# Altium footprint library pre_CAPACITOR.PcbLib: 26 footprints (part 1 of 2)
Each footprint in its own frame and in the unit in brackets; x right, y up, seen from the top. Pads: shape width x height; smd on the part's side, far side on the other; paste and mask are expansions set on the pad; w line width, h text height; cw(c..) or ccw(c..) is an arc to the next point about the centre after c.
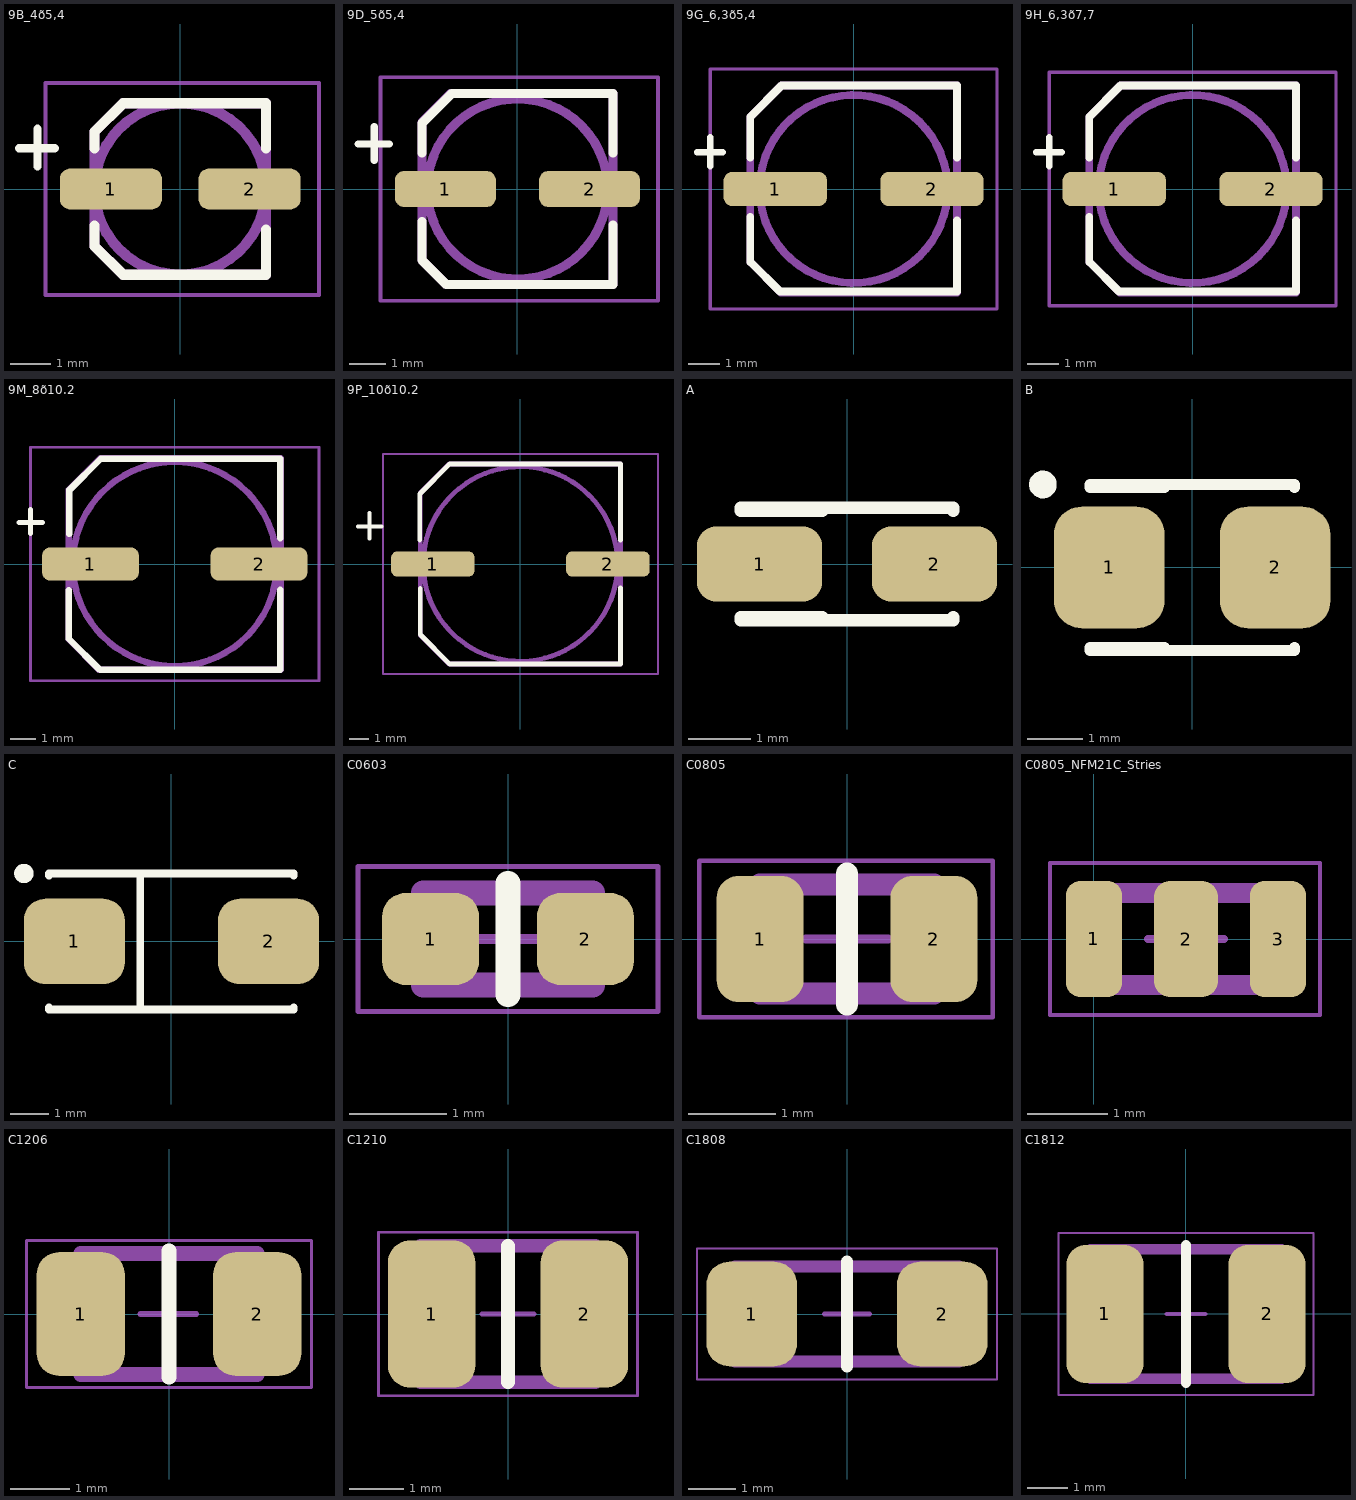
[diagram p0: the footprints below, top view; thin cyan lines are the x and y axes]

## 9B_4õ5,4 [mm]
height 5
pads (2):
  rrect50% 2.5x1 smd: 1(-1.7,0) 2(1.7,0)
Top Overlay:
  lines w0.2: -3.95,1 -3.075,1 ; -3.5,0.55 -3.5,1.475
  lines w0.254: -2.1,-0.9 -2.1,-1.4 -1.4,-2.1 2.1,-2.1 2.1,-1 ; -2.1,1 -2.1,1.4 -1.4,2.1 2.1,2.1 2.1,1
Top Assy:
  circle w0.254: c0,0 r2.1
  lines w0.254: -2.1,-1.4 -2.1,1.4 -1.4,2.1 2.1,2.1 2.1,-2.1 -1.4,-2.1 -2.1,-1.4
  text ".Designator" at -3.1,3.5 h1.52
Mechanical 15:
  lines w0.1: -3.3,-2.6 3.4,-2.6 3.4,2.6 -3.3,2.6 -3.3,-2.6
3D body: height 5.71, standoff 0.01, extent -2.65,-2.15 2.65,2.15

## 9D_5õ5,4 [mm]
height 5
pads (2):
  rrect50% 2.8x1 smd: 1(-2,0) 2(2,0)
Top Overlay:
  lines w0.2: -4.425,1.25 -3.55,1.25 ; -3.975,0.8 -3.975,1.725
  lines w0.254: -2.65,-0.9 -2.65,-1.975 -1.975,-2.65 2.65,-2.65 2.65,-1 ; -2.65,1 -2.65,1.825 -1.825,2.65 2.65,2.65 2.65,1
Top Assy:
  circle w0.254: c0,0 r2.5
  lines w0.254: -2.65,-1.975 -2.65,1.85 -1.85,2.65 2.65,2.65 2.65,-2.65 -1.975,-2.65 -2.65,-1.975
  text ".Designator" at -3.1,3.5 h1.52
Mechanical 15:
  lines w0.1: -3.8,-3.1 3.9,-3.1 3.9,3.1 -3.8,3.1 -3.8,-3.1
3D body: height 5.71, standoff 0.01, extent -3.15,-2.65 3.15,2.65

## 9G_6,3õ5,4 [mm]
height 5
pads (2):
  rrect50% 3.3x1.1 smd: 1(-2.5,0) 2(2.5,0)
Top Overlay:
  lines w0.2: -5,1.175 -4.175,1.175 ; -4.575,0.725 -4.575,1.65
  lines w0.254: -3.3,-0.9 -3.3,-2.325 -2.35,-3.275 3.3,-3.275 3.3,-1 ; -3.3,1 -3.3,2.3 -2.3,3.3 3.3,3.3 3.3,1
Top Assy:
  circle w0.254: c0,0 r3
  lines w0.254: -3.3,-2.325 -3.3,2.3 -2.3,3.3 3.3,3.3 3.3,-3.3 -2.325,-3.3 -3.3,-2.325
  text ".Designator" at -3.075,4.075 h1.52
Mechanical 15:
  lines w0.1: -4.575,-3.825 -4.575,3.825 4.575,3.825 4.575,-3.825 -4.575,-3.825
3D body: height 5.71, standoff 0.01, extent -3.9,-3.3 3.9,3.3

## 9H_6,3õ7,7 [mm]
height 7
pads (2):
  rrect50% 3.3x1.1 smd: 1(-2.5,0) 2(2.5,0)
Top Overlay:
  lines w0.2: -5,1.175 -4.175,1.175 ; -4.575,0.725 -4.575,1.65
  lines w0.254: -3.3,-0.9 -3.3,-2.325 -2.35,-3.275 3.3,-3.275 3.3,-1 ; -3.3,1 -3.3,2.3 -2.3,3.3 3.3,3.3 3.3,1
Top Assy:
  circle w0.254: c0,0 r3
  lines w0.254: -3.3,-2.325 -2.325,-3.3 3.3,-3.3 3.3,3.3 -2.3,3.3 -3.3,2.3 -3.3,-2.325
  text ".Designator" at -3.075,4.075 h1.52
Mechanical 15:
  lines w0.1: -4.575,-3.725 4.575,-3.725 4.575,3.725 -4.575,3.725 -4.575,-3.725
3D body: height 8, standoff 0, extent -3.9,-3.3 3.9,3.3

## 9M_8õ10.2 [mm]
height 102
pads (2):
  rrect50% 3.8x1.3 smd: 1(-3.3,0) 2(3.3,0)
Top Overlay:
  lines w0.2: -6.1,1.625 -5.175,1.625 ; -5.65,1.2 -5.65,2.125
  lines w0.254: -4.15,-1.025 -4.15,-2.925 -2.925,-4.15 4.125,-4.15 4.125,-1 ; -4.125,1.175 -4.125,2.9 -2.9,4.125 4.125,4.125 4.125,1
Top Assy:
  circle w0.254: c0,0 r4
  lines w0.254: -4.15,-2.95 -4.15,2.9 -2.9,4.15 4.15,4.15 4.15,-4.15 -2.95,-4.15 -4.15,-2.95
  text ".Designator" at -3.125,4.975 h1.52
Mechanical 15:
  lines w0.1: -5.65,-4.575 5.65,-4.575 5.65,4.575 -5.65,4.575 -5.65,-4.575
3D body: height 10.51, standoff 0.01, extent -5,-4.15 5,4.15

## 9P_10õ10.2 [mm]
height 102
pads (2):
  rrect50% 4.3x1.3 smd: 1(-4.5,0) 2(4.5,0)
Top Overlay:
  lines w0.2: -8.35,1.925 -7.15,1.925 ; -7.75,1.3 -7.75,2.625
  lines w0.254: -5.175,1.225 -5.175,3.6 -3.625,5.15 5.15,5.15 5.15,1.225 ; -5.15,-1.25 -5.15,-3.625 -3.625,-5.15 5.15,-5.15 5.15,-1.225
Top Assy:
  circle w0.254: c0,0 r5
  lines w0.254: -5.15,-3.65 -5.15,3.65 -3.65,5.15 5.15,5.15 5.15,-5.15 -3.65,-5.15 -5.15,-3.65
  text ".Designator" at -3.125,6.5 h1.52
Mechanical 15:
  lines w0.1: -7.075,-5.65 7.075,-5.65 7.075,5.65 -7.075,5.65 -7.075,-5.65
3D body: height 10.51, standoff 0.01, extent -6.003,-5.15 6,5.15

## A [mm] "Capacitor, SM Tantalum; Body 3.2 x 1.6 mm (LxW typ)"
height 1.8
pads (2):
  rrect50% 2x1.2 smd: 1(-1.4,0) 2(1.4,0)
Top Overlay:
  lines w0.2: -1.7,-0.9 1.7,-0.9 1.7,-0.85 ; -1.7,-0.85 -0.4,-0.85 ; -1.7,0.85 -0.4,0.85 ; -1.7,0.9 1.7,0.9 1.7,0.85

## B [mm] "Capacitor, SM Tantalum; Body 3.5 x 2.8 mm (LxW typ)"
height 2.1
pads (2):
  rrect50% 2x2.2 smd: 1(-1.5,0) 2(1.5,0)
Top Overlay:
  circle w0.25: c-2.7,1.5 r0.125
  lines w0.2: -1.85,-1.5 1.85,-1.5 1.85,-1.45 ; -1.85,-1.45 -0.5,-1.45 ; -1.85,1.45 -0.5,1.45 ; -1.85,1.5 1.85,1.5 1.85,1.45

## C [mm] "Capacitor, SM Tantalum; Body 6.0 x 3.2 mm (LxW typ)"
height 2.8
pads (2):
  rrect50% 2.6x2.2 smd: 1(-2.5,0) 2(2.5,0)
Top Overlay:
  circle w0.25: c-3.8,1.75 r0.125
  lines w0.2: -3.15,-1.7 -3.15,-1.75 3.15,-1.75 3.15,-1.7 ; -3.15,1.7 -3.15,1.75 3.15,1.75 3.15,1.7 ; -0.8,-1.75 -0.8,1.75

## C0603 [mm] "Chip Capacitor, 2-Leads, Body 1,60x0,80mm, IPC Medium Density"
height 0.87
pads (2):
  rrect50% 1x0.95 smd: 1(-0.8,0) 2(0.8,0)
Top Overlay:
  lines w0.254: 0,-0.575 0,0.575
Top Assy:
  lines w0.254: -0.875,-0.475 -0.875,0.475 0.875,0.475 0.875,-0.475 -0.875,-0.475
Mechanical 13:
  lines w0.1: -0.875,-0.475 -0.875,0.475 0.875,0.475 0.875,-0.475 -0.875,-0.475
Mechanical 15:
  lines w0.05: -1.55,-0.75 -1.55,0.75 1.55,0.75 1.55,-0.75 -1.55,-0.75
  lines w0.1: -0.475,0 0.475,0 ; 0,-0.475 0,0.475
3D body: height 0.87, standoff 0, extent -0.875,-0.475 -0.525,0.475
3D body: height 0.87, standoff 0, extent 0.525,-0.475 0.875,0.475
3D body: height 0.87, standoff 0, extent -0.525,-0.475 0.525,0.475

## C0805 [mm]
height 0.025
pads (2):
  rrect50% 1x1.45 smd: 1(-1,0) 2(1,0)
Top Overlay:
  lines w0.254: 0,-0.75 0,0.75
Top Assy:
  lines w0.254: -1,-0.625 1,-0.625 1,0.625 -1,0.625 -1,-0.625
Mechanical 13:
  lines w0.1: -1,-0.625 -1,0.625 1,0.625 1,-0.625 -1,-0.625
Mechanical 15:
  lines w0.05: -1.7,-0.9 1.675,-0.9 1.675,0.9 -1.7,0.9 -1.7,-0.9
  lines w0.1: -0.475,0 0.475,0 ; 0,-0.475 0,0.475
3D body: height 0.87, standoff 0, extent -1,-0.625 1,0.625

## C0805_NFM21C_Stries [mm]
height 0.95
pads (3):
  rrect50% 0.7x1.45 smd: 1(0,0) 3(2.3,0)
  rrect50% 0.8x1.45 smd: 2(1.15,0)
Top Assy:
  lines w0.254: 0.025,-0.575 0.025,0.575 2.2,0.575 2.2,-0.575 0.025,-0.575
Mechanical 13:
  lines w0.1: 0.15,-0.625 2.15,-0.625 2.15,0.625 0.15,0.625 0.15,-0.625
Mechanical 15:
  lines w0.05: -0.55,-0.95 -0.55,0.95 2.825,0.95 2.825,-0.95 -0.55,-0.95
  lines w0.1: 0.675,0 1.625,0 ; 1.15,-0.475 1.15,0.475
3D body: height 0.95, standoff 0, extent 0,-0.6 2,0.65

## C1206 [mm]
height 2
pads (2):
  rrect50% 1.5x2.1 smd: 1(-1.5,0) 2(1.5,0)
Top Overlay:
  lines w0.254: 0,-1.075 0,1.075
Top Assy:
  lines w0.254: -1.5,-1.025 -1.5,1.025 1.5,1.025 1.5,-1.025 -1.5,-1.025
Mechanical 13:
  lines w0.1: -1.525,-1.025 -1.525,1.025 1.5,1.025 1.5,-1.025 -1.525,-1.025
Mechanical 15:
  lines w0.05: -2.425,-1.25 -2.425,1.25 2.425,1.25 2.425,-1.25 -2.425,-1.25
  lines w0.1: -0.488,0 0.462,0 ; -0.013,-0.475 -0.013,0.475
3D body: height 1.25, standoff 0, extent -1.525,-1.025 1.5,1.025

## C1210 [mm]
pads (2):
  rrect50% 1.6x2.7 smd: 1(-1.4,0) 2(1.4,0)
Top Overlay:
  lines w0.254: 0,-1.25 0,1.25
Top Assy:
  lines w0.254: -1.6,-1.25 1.6,-1.25 1.6,1.25 -1.6,1.25 -1.6,-1.25
Mechanical 13:
  lines w0.1: -1.6,-1.25 -1.6,1.25 1.6,1.25 1.6,-1.25 -1.6,-1.25
Mechanical 15:
  lines w0.05: -2.375,-1.5 2.375,-1.5 2.375,1.5 -2.375,1.5 -2.375,-1.5
  lines w0.1: -0.475,0 0.475,0 ; 0,-0.475 0,0.475
3D body: height 1.25, standoff 0, extent -1.6,-1.25 1.6,1.25

## C1808 [mm]
height 2
pads (2):
  rrect50% 1.9x2.2 smd: 1(-2,0) 2(2,0)
Top Overlay:
  lines w0.254: 0,-1.1 0,1.1
Top Assy:
  lines w0.254: -2.35,-1 -2.35,1 2.35,1 2.35,-1 -2.35,-1
Mechanical 13:
  lines w0.1: -2.35,-1 -2.35,1 2.35,1 2.35,-1 -2.35,-1
Mechanical 15:
  lines w0.05: -3.15,-1.375 3.15,-1.375 3.15,1.375 -3.15,1.375 -3.15,-1.375
  lines w0.1: -0.475,0 0.475,0 ; 0,-0.475 0,0.475
3D body: height 1.5, standoff 0, extent -2.35,-1 2.35,1

## C1812 [mm]
pads (2):
  rrect50% 1.9x3.4 smd: 1(-2,0) 2(2,0)
Top Overlay:
  lines w0.254: 0,-1.7 0,1.7
Top Assy:
  lines w0.254: -2.35,-1.6 -2.35,1.6 2.35,1.6 2.35,-1.6 -2.35,-1.6
Mechanical 13:
  lines w0.1: -2.35,-1.6 -2.35,1.6 2.35,1.6 2.35,-1.6 -2.35,-1.6
Mechanical 15:
  lines w0.05: -3.15,-2 3.15,-2 3.15,2 -3.15,2 -3.15,-2
  lines w0.1: -0.475,0 0.475,0 ; 0,-0.475 0,0.475
3D body: height 1.5, standoff 0, extent -2.35,-1.6 2.35,1.6